# EAGLE library part PCI-EXPRESS-GRAD-EDGE (library Connector)
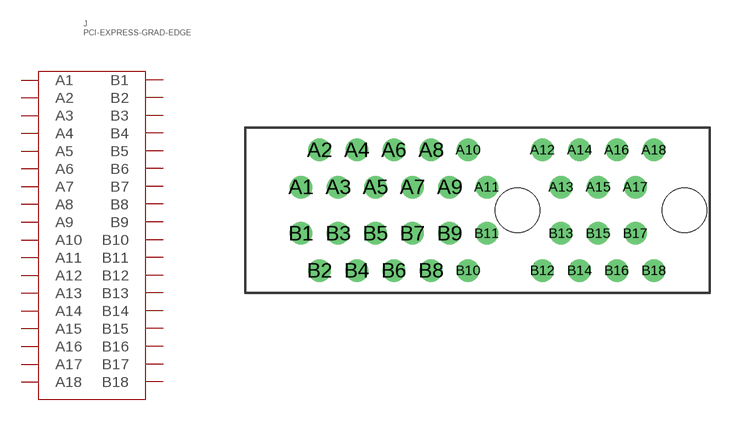
[diagram p30: symbol with the pads of PCI-EXPRESS-GRAD-EDGE; footprint PCI-EXPRESS-GRAD-EDGE]

Designator prefix J

## PCI-EXPRESS-GRAD-EDGE  [PCI-EXPRESS-GRAD-EDGE]
A1  A1
A2  A2
A3  A3
A4  A4
A5  A5
A6  A6
A7  A7
A8  A8
A9  A9
A10  A10
A11  A11
A12  A12
A13  A13
A14  A14
A15  A15
A16  A16
A17  A17
A18  A18
B1  B1
B2  B2
B3  B3
B4  B4
B5  B5
B6  B6
B7  B7
B8  B8
B9  B9
B10  B10
B11  B11
B12  B12
B13  B13
B14  B14
B15  B15
B16  B16
B17  B17
B18  B18

## Footprint PCI-EXPRESS-GRAD-EDGE (pad centres in mm)
drill 0.7 pad 1.15 round: A1 -9.5,1.25; A2 -8.5,3.25; A3 -7.5,1.25; A4 -6.5,3.25; A5 -5.5,1.25; A6 -4.5,3.25; A7 -3.5,1.25; A8 -2.5,3.25; A9 -1.5,1.25; A10 -0.5,3.25; A11 0.5,1.25; A12 3.5,3.25; A13 4.5,1.25; A14 5.5,3.25; A15 6.5,1.25; A16 7.5,3.25; A17 8.5,1.25; A18 9.5,3.25; B1 -9.5,-1.25; B2 -8.5,-3.25; B3 -7.5,-1.25; B4 -6.5,-3.25; B5 -5.5,-1.25; B6 -4.5,-3.25; B7 -3.5,-1.25; B8 -2.5,-3.25; B9 -1.5,-1.25; B10 -0.5,-3.25; B11 0.5,-1.25; B12 3.5,-3.25; B13 4.5,-1.25; B14 5.5,-3.25; B15 6.5,-1.25; B16 7.5,-3.25; B17 8.5,-1.25; B18 9.5,-3.25
hole 2.4 at 11.15,0
hole 2.4 at 2.15,0